# Altium footprint library TO254P480X1010X2300-3P.PcbLib: 1 footprints
Each footprint in its own frame and in the unit in brackets; x right, y up, seen from the top. Pads: shape width x height; smd on the part's side, far side on the other; paste and mask are expansions set on the pad; w line width, h text height; cw(c..) or ccw(c..) is an arc to the next point about the centre after c.
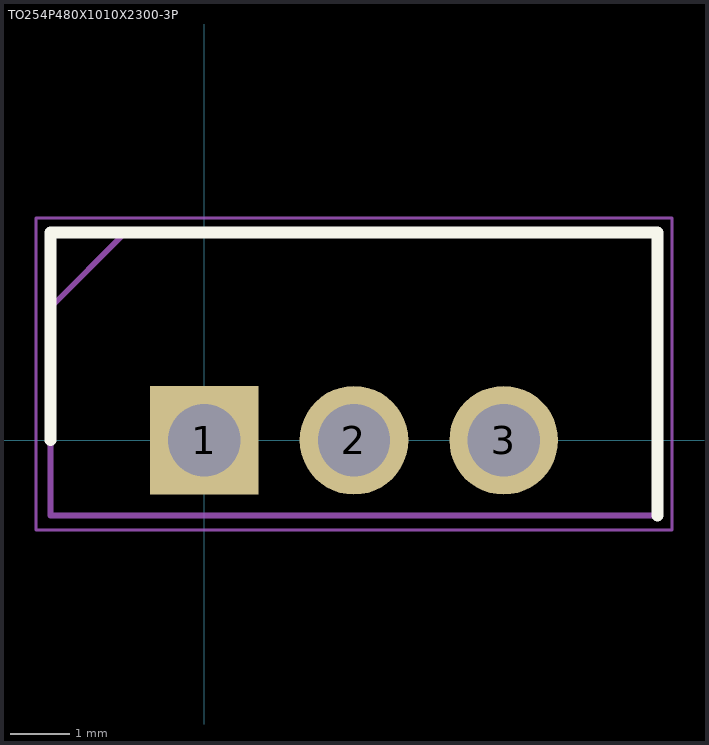
[diagram p0: the footprint, top view; thin cyan lines are the x and y axes]

## TO254P480X1010X2300-3P [mm]
pads (3):
  rect 1.845x1.845 / inner round 1.845 / far side rect 1.845x1.845 hole 1.23: 1(0,0)
  round 1.845 hole 1.23: 2(2.54,0) 3(5.08,0)
Top Overlay:
  lines w0.2: -2.61,0 -2.61,3.525 7.69,3.525 7.69,-1.275
Mechanical 15:
  lines w0.1: -2.61,2.255 -1.34,3.525 ; -2.61,-1.275 7.69,-1.275 7.69,3.525 -2.61,3.525 -2.61,-1.275
Mechanical 20:
  lines w0.05: -2.86,-1.525 7.94,-1.525 7.94,3.775 -2.86,3.775 -2.86,-1.525
3D body "BA033T.stp": height 5.8, standoff -4.65, extent -10,-3.376 10,3.376